# EAGLE library part MSP430FR5994_PM (library template_board)
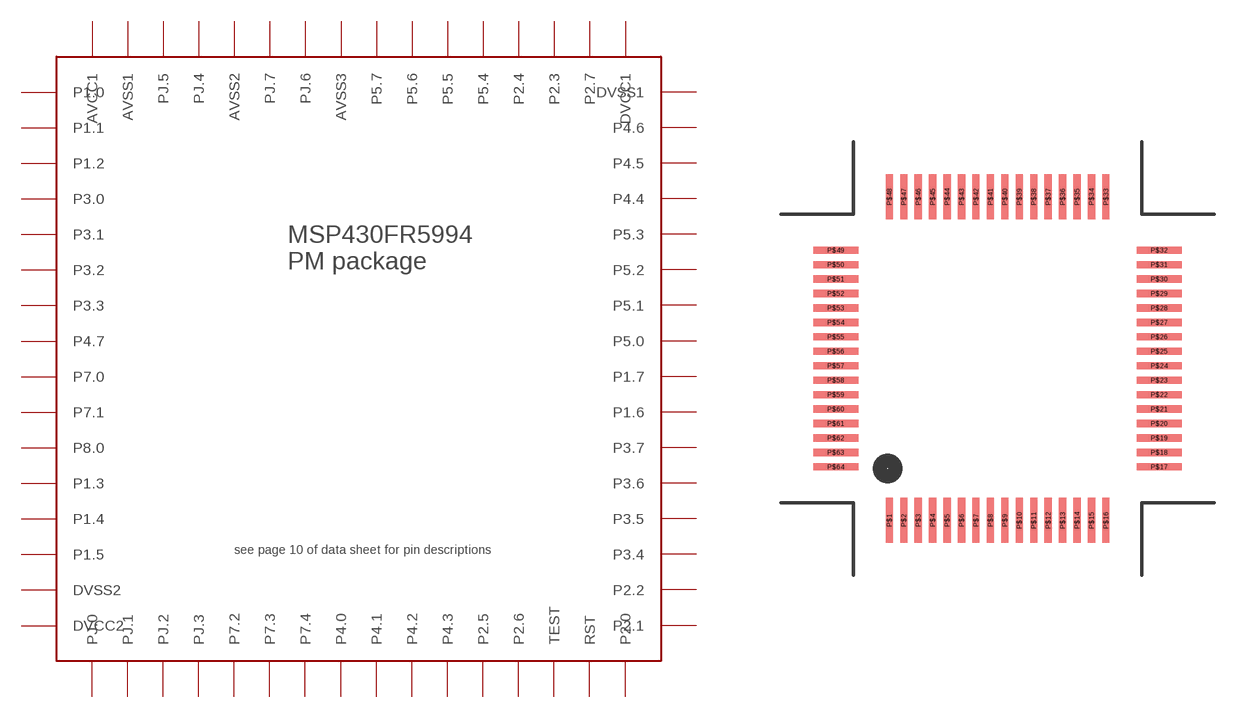
[diagram p12: symbol with the pads of LQFP-64; footprint LQFP-64]

Designator prefix -

## MSP430FR5994_PM  [LQFP-64]
P$1  P1.0
P$2  P1.1
P$3  P1.2
P$4  P3.0
P$5  P3.1
P$6  P3.2
P$7  P3.3
P$8  P4.7
P$9  P7.0
P$10  P7.1
P$11  P8.0
P$12  P1.3
P$13  P1.4
P$14  P1.5
P$15  DVSS2
P$16  DVCC2
P$17  PJ.0
P$18  PJ.1
P$19  PJ.2
P$20  PJ.3
P$21  P7.2
P$22  P7.3
P$23  P7.4
P$24  P4.0
P$25  P4.1
P$26  P4.2
P$27  P4.3
P$28  P2.5
P$29  P2.6
P$30  TEST
P$31  RST
P$32  P2.0
P$33  P2.1
P$34  P2.2
P$35  P3.4
P$36  P3.5
P$37  P3.6
P$38  P3.7
P$39  P1.6
P$40  P1.7
P$41  P5.0
P$42  P5.1
P$43  P5.2
P$44  P5.3
P$45  P4.4
P$46  P4.5
P$47  P4.6
P$48  DVSS1
P$49  DVCC1
P$50  P2.7
P$51  P2.3
P$52  P2.4
P$53  P5.4
P$54  P5.5
P$55  P5.6
P$56  P5.7
P$57  AVSS3
P$58  PJ.6
P$59  PJ.7
P$60  AVSS2
P$61  PJ.4
P$62  PJ.5
P$63  AVSS1
P$64  AVCC1

## Footprint LQFP-64 (pad centres in mm)
smd 0.25 x 1.55: P$1 -3.75,-5.6; P$2 -3.25,-5.6; P$3 -2.75,-5.6; P$4 -2.25,-5.6; P$5 -1.75,-5.6; P$6 -1.25,-5.6; P$7 -0.75,-5.6; P$8 -0.25,-5.6; P$9 0.25,-5.6; P$10 0.75,-5.6; P$11 1.25,-5.6; P$12 1.75,-5.6; P$13 2.25,-5.6; P$14 2.75,-5.6; P$15 3.25,-5.6; P$16 3.75,-5.6; P$33 3.75,5.6; P$34 3.25,5.6; P$35 2.75,5.6; P$36 2.25,5.6; P$37 1.75,5.6; P$38 1.25,5.6; P$39 0.75,5.6; P$40 0.25,5.6; P$41 -0.25,5.6; P$42 -0.75,5.6; P$43 -1.25,5.6; P$44 -1.75,5.6; P$45 -2.25,5.6; P$46 -2.75,5.6; P$47 -3.25,5.6; P$48 -3.75,5.6
smd 1.55 x 0.25: P$17 5.6,-3.75; P$18 5.6,-3.25; P$19 5.6,-2.75; P$20 5.6,-2.25; P$21 5.6,-1.75; P$22 5.6,-1.25; P$23 5.6,-0.75; P$24 5.6,-0.25; P$25 5.6,0.25; P$26 5.6,0.75; P$27 5.6,1.25; P$28 5.6,1.75; P$29 5.6,2.25; P$30 5.6,2.75; P$31 5.6,3.25; P$32 5.6,3.75; P$49 -5.6,3.75; P$50 -5.6,3.25; P$51 -5.6,2.75; P$52 -5.6,2.25; P$53 -5.6,1.75; P$54 -5.6,1.25; P$55 -5.6,0.75; P$56 -5.6,0.25; P$57 -5.6,-0.25; P$58 -5.6,-0.75; P$59 -5.6,-1.25; P$60 -5.6,-1.75; P$61 -5.6,-2.25; P$62 -5.6,-2.75; P$63 -5.6,-3.25; P$64 -5.6,-3.75